# Altium schematic symbol library led-citizen-electronics.SCHLIB: 1 symbol
Pins are listed as number, name and electrical type; pins without a type are passive.

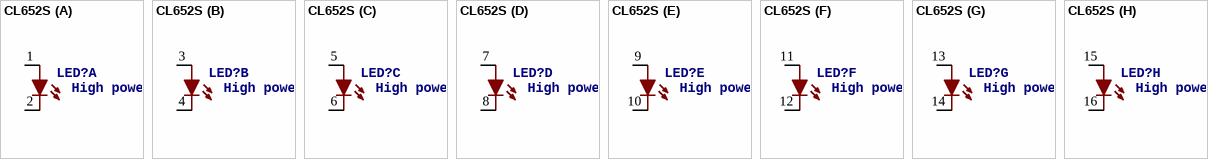
[diagram p0: symbol CL652S]

## CL652S
designator LED?, comment High power White LED for general purpose lighting   mounting from bottom (MIRROR) Source: http://www.c-e.co.jp/products/pdf/high_power_w_led/high_power_w_led_g.pdf
OC_FARNELL: unknown; OC_NEWARK: unknown
footprint CL652S
part A pins: 1 A, 2 C
part B pins: 3 A, 4 C
part C pins: 5 A, 6 C
part D pins: 7 A, 8 C
part E pins: 9 A, 10 C
part F pins: 11 A, 12 C
part G pins: 13 A, 14 C
part H pins: 15 A, 16 C